# Altium footprint library PcbLib1.PcbLib: 4 footprints
Each footprint in its own frame and in the unit in brackets; x right, y up, seen from the top. Pads: shape width x height; smd on the part's side, far side on the other; paste and mask are expansions set on the pad; w line width, h text height; cw(c..) or ccw(c..) is an arc to the next point about the centre after c.
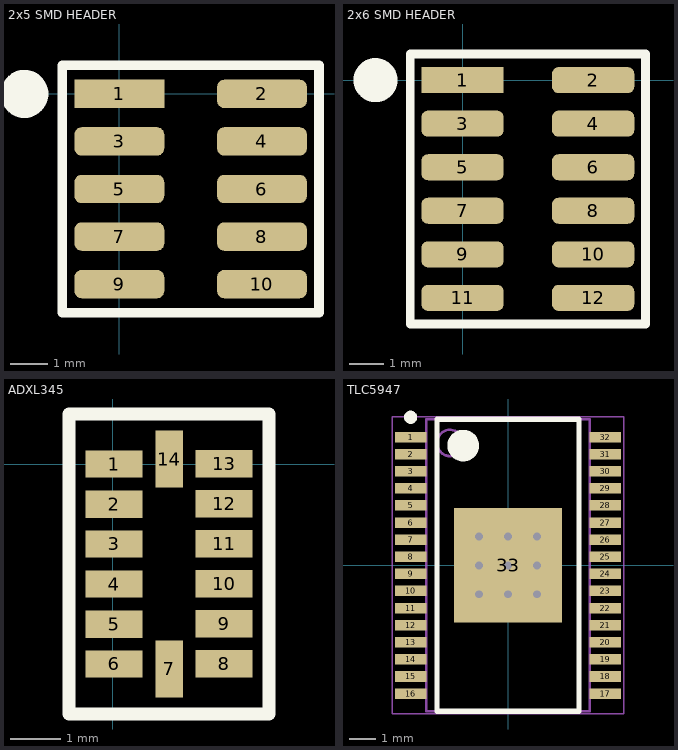
[diagram p0: the footprints below, top view; thin cyan lines are the x and y axes]

## 2x5 SMD HEADER [mm]
pads (10):
  rect 2.4x0.76 smd: 1(0,0)
  rrect50% 2.4x0.76 smd: 2(3.81,0) 3(0,-1.27) 4(3.81,-1.27) 5(0,-2.54) 6(3.81,-2.54) 7(0,-3.81) 8(3.81,-3.81) 9(0,-5.08) 10(3.81,-5.08)
Top Overlay:
  circle w1: c-2.54,0 r0.141
  lines w0.254: -1.524,-5.842 5.334,-5.842 5.334,0.762 -1.524,0.762 -1.524,-5.842

## 2x6 SMD HEADER [mm]
pads (12):
  rect 2.4x0.76 smd: 1(0,0)
  rrect50% 2.4x0.76 smd: 2(3.81,0) 3(0,-1.27) 4(3.81,-1.27) 5(0,-2.54) 6(3.81,-2.54) 7(0,-3.81) 8(3.81,-3.81) 9(0,-5.08) 10(3.81,-5.08) 11(0,-6.35) 12(3.81,-6.35)
Top Overlay:
  circle w1: c-2.54,0 r0.141
  lines w0.254: -1.524,-7.112 5.334,-7.112 5.334,0.762 -1.524,0.762 -1.524,-7.112

## ADXL345 [mm]
pads (14):
  rect 1.145x0.55 smd: 1(0.025,0) 2(0.025,-0.8) 3(0.025,-1.6) 4(0.025,-2.4) 5(0.025,-3.2) 6(0.025,-4) 8(2.225,-4) 9(2.225,-3.2) 10(2.225,-2.4) 11(2.225,-1.6) 12(2.225,-0.8) 13(2.225,0)
  rect 0.55x1.145 smd: 7(1.125,-4.1) 14(1.125,0.1)
Top Overlay:
  lines w0.254: -0.875,-5 3.125,-5 3.125,1 -0.875,1 -0.875,-5

## TLC5947 [mm] "TSOP, 32-Leads, Body 11.00x6.10mm, Pitch 0.65mm, Thermal Pad 4.36x4.11mm, IPC High Density"
height 1.2
pads (33):
  rect 1.2x0.4 smd: 1(-3.7,4.875) 2(-3.7,4.225) 3(-3.7,3.575) 4(-3.7,2.925) 5(-3.7,2.275) 6(-3.7,1.625) 7(-3.7,0.975) 8(-3.7,0.325) 9(-3.7,-0.325) 10(-3.7,-0.975) 11(-3.7,-1.625) 12(-3.7,-2.275) 13(-3.7,-2.925) 14(-3.7,-3.575) 15(-3.7,-4.225) 16(-3.7,-4.875) 17(3.7,-4.875) 18(3.7,-4.225) 19(3.7,-3.575) 20(3.7,-2.925) 21(3.7,-2.275) 22(3.7,-1.625) 23(3.7,-0.975) 24(3.7,-0.325) 25(3.7,0.325) 26(3.7,0.975) 27(3.7,1.625) 28(3.7,2.275) 29(3.7,2.925) 30(3.7,3.575) 31(3.7,4.225) 32(3.7,4.875)
  rect 4.11x4.36 smd: 33(0,0)
via 1.1,-1.1 diameter 0.7 hole 0.3
via -1.1,1.1 diameter 0.7 hole 0.3
via 0,1.1 diameter 0.7 hole 0.3
via 1.1,1.1 diameter 0.7 hole 0.3
via -1.1,0 diameter 0.7 hole 0.3
via 0,0 diameter 0.7 hole 0.3
via 1.1,0 diameter 0.7 hole 0.3
via -1.1,-1.1 diameter 0.7 hole 0.3
via 0,-1.1 diameter 0.7 hole 0.3
Top Overlay:
  circle w0.25: c-3.7,5.625 r0.125
  circle w0.6: c-1.7,4.55 r0.3
  lines w0.2: -2.7,-5.55 -2.7,5.55 2.7,5.55 2.7,-5.55 -2.7,-5.55
Mechanical 13:
  circle w0.1: c-2.2,4.65 r0.5
  lines w0.1: -3.1,-5.55 -3.1,5.55 3.1,5.55 3.1,-5.55 -3.1,-5.55
Mechanical 15:
  lines w0.05: -4.4,-5.65 -4.4,5.65 4.4,5.65 4.4,-5.65 -4.4,-5.65
  lines w0.1: -0.5,0 0.5,0 ; 0,-0.5 0,0.5
3D body: height 1.2, standoff 0.05, extent -3.1,-5.55 3.1,5.55